# EAGLE library part MCP4822-E/SN (library TuesdayR3)
12 Bit DAC
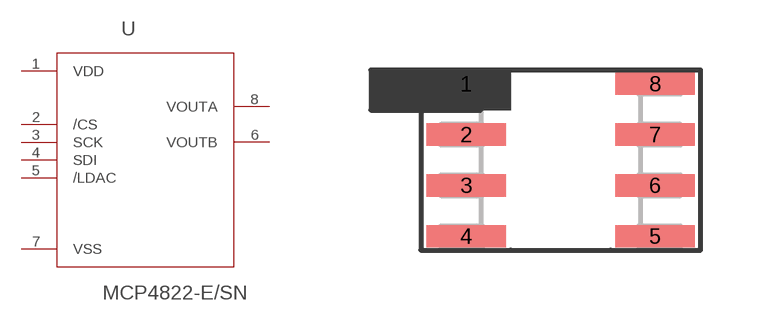
[diagram p3: symbol with the pads of SOIC8-N_MC; footprint SOIC8-N_MC]

Designator prefix -

## MCP4822-E/SN (DESCRIPTION: 12 Bit DAC; MPN: MCP4822-E/SN; OC_FARNELL: 1439414; OC_NEWARK: 31K2975; PACKAGE: SOIC-8; SUPPLIER: Microchip)  [SOIC8-N_MC]
1  VDD  pwr
2  /CS  in
3  SCK  in
4  SDI  in
5  /LDAC  in
6  VOUTB  in
7  VSS  pwr
8  VOUTA  out

## Footprint SOIC8-N_MC (pad centres in mm)
smd 1.981 x 0.559: 1 -2.362,1.905; 2 -2.362,0.635; 3 -2.362,-0.635; 4 -2.362,-1.905; 5 2.362,-1.905; 6 2.362,-0.635; 7 2.362,0.635; 8 2.362,1.905